# Altium footprint library ics.PcbLib: 9 footprints
Each footprint in its own frame and in the unit in brackets; x right, y up, seen from the top. Pads: shape width x height; smd on the part's side, far side on the other; paste and mask are expansions set on the pad; w line width, h text height; cw(c..) or ccw(c..) is an arc to the next point about the centre after c.
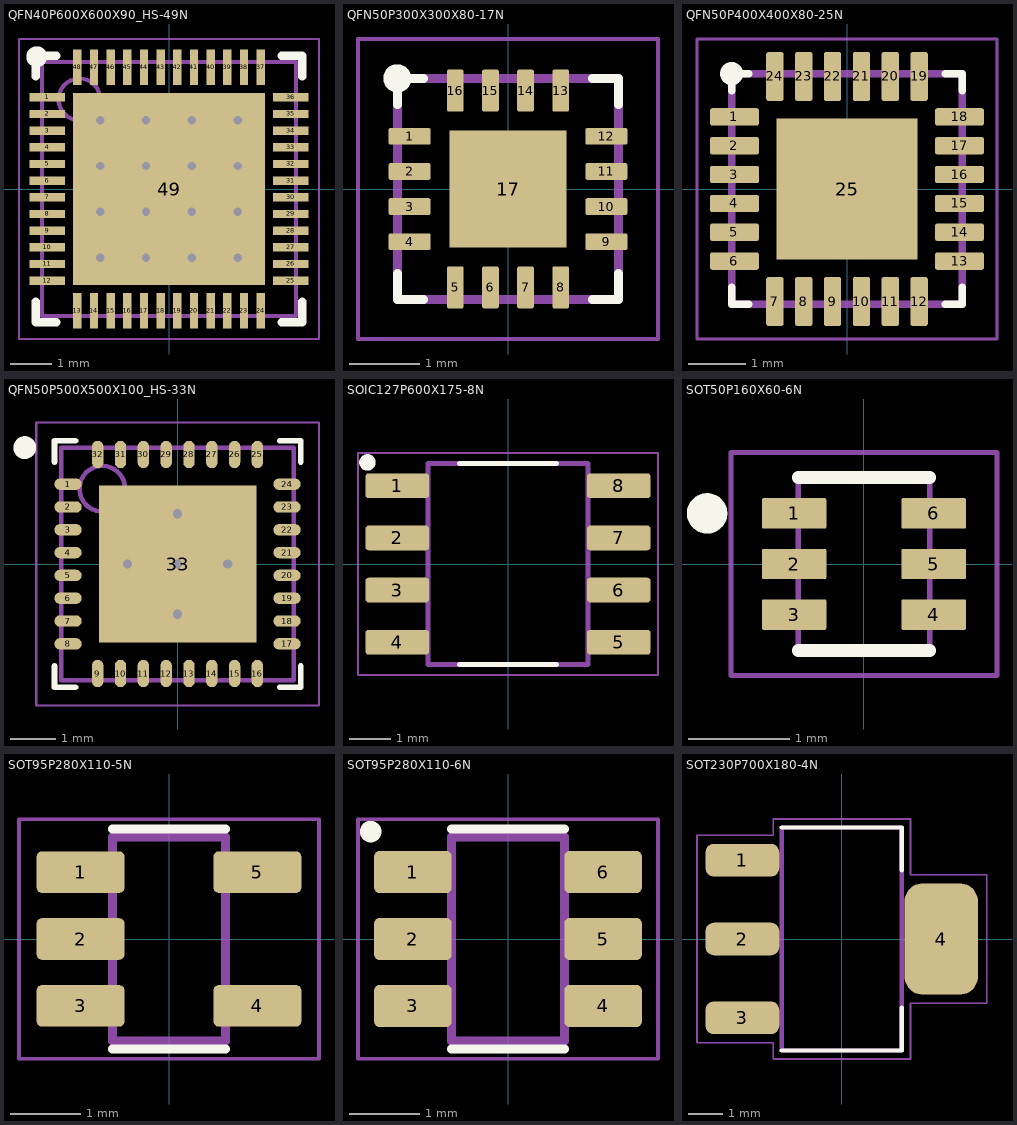
[diagram p0: the footprints below, top view; thin cyan lines are the x and y axes]

## QFN40P600X600X90_HS-49N [mm] "QFN, 48-Leads, Body 6.00x6.00mm, Pitch 0.40mm, Thermal Pad 4.60x4.60mm, IPC Medium Density"
height 0.9
pads (49):
  rect 0.85x0.2 smd: 1(-2.925,2.2) 2(-2.925,1.8) 3(-2.925,1.4) 4(-2.925,1) 5(-2.925,0.6) 6(-2.925,0.2) 7(-2.925,-0.2) 8(-2.925,-0.6) 9(-2.925,-1) 10(-2.925,-1.4) 11(-2.925,-1.8) 12(-2.925,-2.2) 25(2.925,-2.2) 26(2.925,-1.8) 27(2.925,-1.4) 28(2.925,-1) 29(2.925,-0.6) 30(2.925,-0.2) 31(2.925,0.2) 32(2.925,0.6) 33(2.925,1) 34(2.925,1.4) 35(2.925,1.8) 36(2.925,2.2)
  rect 0.2x0.85 smd: 13(-2.2,-2.925) 14(-1.8,-2.925) 15(-1.4,-2.925) 16(-1,-2.925) 17(-0.6,-2.925) 18(-0.2,-2.925) 19(0.2,-2.925) 20(0.6,-2.925) 21(1,-2.925) 22(1.4,-2.925) 23(1.8,-2.925) 24(2.2,-2.925) 37(2.2,2.925) 38(1.8,2.925) 39(1.4,2.925) 40(1,2.925) 41(0.6,2.925) 42(0.2,2.925) 43(-0.2,2.925) 44(-0.6,2.925) 45(-1,2.925) 46(-1.4,2.925) 47(-1.8,2.925) 48(-2.2,2.925)
  rect 4.6x4.6 smd: 49(0,0)
via -1.65,1.65 diameter 0.5 hole 0.2
via -0.55,1.65 diameter 0.5 hole 0.2
via 0.55,1.65 diameter 0.5 hole 0.2
via 1.65,1.65 diameter 0.5 hole 0.2
via -1.65,0.55 diameter 0.5 hole 0.2
via -0.55,0.55 diameter 0.5 hole 0.2
via 0.55,0.55 diameter 0.5 hole 0.2
via 1.65,0.55 diameter 0.5 hole 0.2
via -1.65,-0.55 diameter 0.5 hole 0.2
via -0.55,-0.55 diameter 0.5 hole 0.2
via 0.55,-0.55 diameter 0.5 hole 0.2
via 1.65,-0.55 diameter 0.5 hole 0.2
via -1.65,-1.65 diameter 0.5 hole 0.2
via -0.55,-1.65 diameter 0.5 hole 0.2
via 0.55,-1.65 diameter 0.5 hole 0.2
via 1.65,-1.65 diameter 0.5 hole 0.2
Top Overlay:
  circle w0.25: c-3.175,3.175 r0.125
  lines w0.2: -3.2,-2.7 -3.2,-3.2 -2.7,-3.2 ; -3.2,2.7 -3.2,3.2 -2.7,3.2 ; 2.7,-3.2 3.2,-3.2 3.2,-2.7 ; 2.7,3.2 3.2,3.2 3.2,2.7
Mechanical 13:
  circle w0.1: c-2.15,2.15 r0.5
  lines w0.1: -3.05,-3.05 -3.05,3.05 3.05,3.05 3.05,-3.05 -3.05,-3.05
Mechanical 15:
  lines w0.05: -3.6,-3.6 -3.6,3.6 3.6,3.6 3.6,-3.6 -3.6,-3.6
  lines w0.1: -0.5,0 0.5,0 ; 0,-0.5 0,0.5
3D body "QFN40P600X600X90_HS-49N.step": height 0.9, standoff 0, extent -3.051,-3.051 3.051,3.051

## QFN50P300X300X80-17N [mm]
pads (17):
  rrect25% 0.6x0.24 smd: 1(-1.4,0.75) 2(-1.4,0.25) 3(-1.4,-0.25) 4(-1.4,-0.75) 9(1.4,-0.75) 10(1.4,-0.25) 11(1.4,0.25) 12(1.4,0.75)
  rrect25% 0.24x0.6 smd: 5(-0.75,-1.4) 6(-0.25,-1.4) 7(0.25,-1.4) 8(0.75,-1.4) 13(0.75,1.4) 14(0.25,1.4) 15(-0.25,1.4) 16(-0.75,1.4)
  rect 1.66x1.66 smd paste-0.31: 17(0,0)
Top Overlay:
  circle w0.2: c-1.575,1.575 r0.1
  lines w0.127: -1.575,-1.2 -1.575,-1.575 -1.2,-1.575 ; -1.575,1.2 -1.575,1.575 -1.2,1.575 ; 1.2,-1.575 1.575,-1.575 1.575,-1.2 ; 1.2,1.575 1.575,1.575 1.575,1.2
Mechanical 13:
  lines w0.127: -1.575,-1.575 1.575,-1.575 1.575,1.575 -1.575,1.575 -1.575,-1.575
Mechanical 15:
  lines w0.05: -2.135,-2.135 2.135,-2.135 2.135,2.135 -2.135,2.135 -2.135,-2.135
3D body "step_temp.STEP": height 0.8, standoff 0, extent -1.5,-1.5 1.5,1.5

## QFN50P400X400X80-25N [mm]
pads (25):
  rrect25% 0.85x0.3 smd: 1(-1.95,1.25) 2(-1.95,0.75) 3(-1.95,0.25) 4(-1.95,-0.25) 5(-1.95,-0.75) 6(-1.95,-1.25) 13(1.95,-1.25) 14(1.95,-0.75) 15(1.95,-0.25) 16(1.95,0.25) 17(1.95,0.75) 18(1.95,1.25)
  rrect25% 0.3x0.85 smd: 7(-1.25,-1.95) 8(-0.75,-1.95) 9(-0.25,-1.95) 10(0.25,-1.95) 11(0.75,-1.95) 12(1.25,-1.95) 19(1.25,1.95) 20(0.75,1.95) 21(0.25,1.95) 22(-0.25,1.95) 23(-0.75,1.95) 24(-1.25,1.95)
  rect 2.45x2.45 smd paste-0.45: 25(0,0)
Top Overlay:
  circle w0.2: c-2,2 r0.1
  lines w0.127: -2,-1.7 -2,-2 -1.7,-2 ; -2,1.7 -2,2 -1.7,2 ; 1.7,-2 2,-2 2,-1.7 ; 1.7,2 2,2 2,1.7
Mechanical 13:
  lines w0.127: -2,-2 2,-2 2,2 -2,2 -2,-2
Mechanical 15:
  lines w0.05: -2.6,-2.6 2.6,-2.6 2.6,2.6 -2.6,2.6 -2.6,-2.6
3D body "CP2102N-A02-GQFN24R--3DModel-STEP-56544.STEP": height 0.8, standoff 0, extent -2,-2 2,2

## QFN50P500X500X100_HS-33N [mm] "QFN, 32-Leads, Body 5.00x5.00mm, Pitch 0.50mm, Thermal Pad 3.45x3.45mm, IPC Medium Density"
height 1
pads (33):
  oval 0.6x0.25 smd: 1(-2.4,1.75) 2(-2.4,1.25) 3(-2.4,0.75) 4(-2.4,0.25) 5(-2.4,-0.25) 6(-2.4,-0.75) 7(-2.4,-1.25) 8(-2.4,-1.75) 17(2.4,-1.75) 18(2.4,-1.25) 19(2.4,-0.75) 20(2.4,-0.25) 21(2.4,0.25) 22(2.4,0.75) 23(2.4,1.25) 24(2.4,1.75)
  oval 0.25x0.6 smd: 9(-1.75,-2.4) 10(-1.25,-2.4) 11(-0.75,-2.4) 12(-0.25,-2.4) 13(0.25,-2.4) 14(0.75,-2.4) 15(1.25,-2.4) 16(1.75,-2.4) 25(1.75,2.4) 26(1.25,2.4) 27(0.75,2.4) 28(0.25,2.4) 29(-0.25,2.4) 30(-0.75,2.4) 31(-1.25,2.4) 32(-1.75,2.4)
  rect 3.45x3.45 smd: 33(0,0)
via 0,-1.1 diameter 0.5 hole 0.2
via 1.1,0 diameter 0.5 hole 0.2
via 0,0 diameter 0.5 hole 0.2
via -1.1,0 diameter 0.5 hole 0.2
via 0,1.1 diameter 0.5 hole 0.2
Top Overlay:
  circle w0.25: c-3.35,2.55 r0.125
  lines w0.127: -2.7,-2.238 -2.7,-2.7 -2.238,-2.7 ; -2.7,2.238 -2.7,2.7 -2.238,2.7 ; 2.238,-2.7 2.7,-2.7 2.7,-2.238 ; 2.238,2.7 2.7,2.7 2.7,2.238
Mechanical 13:
  circle w0.1: c-1.65,1.65 r0.5
  lines w0.1: -2.55,-2.55 2.55,-2.55 2.55,2.55 -2.55,2.55 -2.55,-2.55
Mechanical 15:
  lines w0.05: -3.1,-3.1 3.1,-3.1 3.1,3.1 -3.1,3.1 -3.1,-3.1
  lines w0.1: -0.5,0 0.5,0 ; 0,-0.5 0,0.5
3D body "QFN50P500X500X100_HS-33N.step": height 1, standoff 0, extent -2.551,-2.551 2.551,2.551

## SOIC127P600X175-8N [mm]
pads (8):
  rrect25% 1.55x0.6 smd: 1(-2.7,1.905) 2(-2.7,0.635) 3(-2.7,-0.635) 4(-2.7,-1.905) 5(2.7,-1.905) 6(2.7,-0.635) 7(2.7,0.635) 8(2.7,1.905)
Top Overlay:
  circle w0.2: c-3.425,2.475 r0.1
  lines w0.127: -1.185,-2.45 1.185,-2.45 ; -1.185,2.45 1.185,2.45
Mechanical 13:
  lines w0.127: -1.95,-2.45 1.95,-2.45 1.95,2.45 -1.95,2.45 -1.95,-2.45
Mechanical 15:
  lines w0.05: -3.655,-2.7 3.655,-2.7 3.655,2.7 -3.655,2.7 -3.655,-2.7
3D body "SOIC8-N_MC_MCH.step": height 1.76, standoff 0, extent -2.997,-2.451 2.997,2.451

## SOT50P160X60-6N [mm]
pads (6):
  rrect8% 0.635x0.3 smd: 1(-0.69,0.5) 2(-0.69,0) 3(-0.69,-0.5) 4(0.69,-0.5) 5(0.69,0) 6(0.69,0.5)
Top Overlay:
  circle w0.2: c-1.55,0.5 r0.1
  lines w0.127: -0.65,-0.855 0.65,-0.855 ; -0.65,0.855 0.65,0.855
Mechanical 13:
  lines w0.051: -0.65,-0.85 0.65,-0.85 0.65,0.85 -0.65,0.85 -0.65,-0.85
Mechanical 15:
  lines w0.05: -1.315,-1.1 -0.9,-1.1 0.9,-1.1 1.315,-1.1 1.315,1.1 0.9,1.1 -0.9,1.1 -1.315,1.1 -1.315,-1.1
3D body "step_temp.STEP": height 0.6, standoff 0, extent -0.8,-0.8 0.8,0.8

## SOT95P280X110-5N [mm]
pads (5):
  rrect25% 1.25x0.59 smd: 1(-1.255,0.95) 2(-1.255,0) 3(-1.255,-0.95) 4(1.255,-0.95) 5(1.255,0.95)
Top Overlay:
  lines w0.127: -0.8,-1.565 0.8,-1.565 ; -0.8,1.565 0.8,1.565
Mechanical 13:
  lines w0.127: -0.8,-1.45 0.8,-1.45 0.8,1.45 -0.8,1.45 -0.8,-1.45
Mechanical 15:
  lines w0.05: -2.13,-1.7 2.13,-1.7 2.13,1.7 -2.13,1.7 -2.13,-1.7
3D body "step_temp.STEP": height 1.1, standoff 0, extent -1.4,-1.45 1.4,1.45

## SOT95P280X110-6N [mm]
pads (6):
  rrect25% 1.1x0.6 smd: 1(-1.35,0.95) 2(-1.35,0) 3(-1.35,-0.95) 4(1.35,-0.95) 5(1.35,0) 6(1.35,0.95)
Top Overlay:
  circle w0.254: c-1.95,1.525 r0.025
  lines w0.127: -0.8,-1.565 0.8,-1.565 ; -0.8,1.565 0.8,1.565
Mechanical 13:
  lines w0.127: -0.8,-1.45 0.8,-1.45 0.8,1.45 -0.8,1.45 -0.8,-1.45
Mechanical 15:
  lines w0.05: -2.13,-1.7 -1.05,-1.7 1.05,-1.7 2.13,-1.7 2.13,1.7 1.05,1.7 -1.05,1.7 -2.13,1.7 -2.13,-1.7
3D body "step_temp.STEP": height 1.1, standoff 0, extent -1.4,-1.45 1.4,1.45

## SOT230P700X180-4N [mm]
pads (4):
  rrect50% 2.15x0.95 smd: 1(-2.9,2.3) 2(-2.9,0) 3(-2.9,-2.3)
  rrect50% 2.15x3.25 smd: 4(2.9,0)
Top Overlay:
  lines w0.127: -1.75,-3.25 1.75,-3.25 1.75,-2.01 ; -1.75,3.25 1.75,3.25 1.75,2.01
Mechanical 13:
  lines w0.127: -1.75,-3.25 -1.75,3.25 1.75,3.25 1.75,-3.25 -1.75,-3.25
Mechanical 15:
  lines w0.05: -4.225,-3.025 -4.225,3.025 -2,3.025 -2,3.5 2,3.5 2,1.875 4.225,1.875 4.225,-1.875 2,-1.875 2,-3.5 -2,-3.5 -2,-3.025 -4.225,-3.025
3D body "step_temp.STEP": height 1.8, standoff 0, extent -3.499,-3.25 3.499,3.25